# Altium schematic symbol library L.Schlib: 1 symbol
Pins are listed as number, name and electrical type; pins without a type are passive.

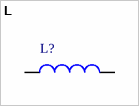
[diagram p0: symbol L]

## L
designator L?
Inductor
simulation model INDUCTOR (Inductor)
signal-integrity model Inductor
footprint DR125
footprint 2525
pins: 1, 2